# EAGLE library part NSD15-12S12 (library NSD15-12S12)
Isolated DC/DC Converters 15W 12V/1.25A W/EMI FILTER Source: Datasheet <https://www.meanwellusa.com/webapp/product/search.aspx?prod=NSD15-S>
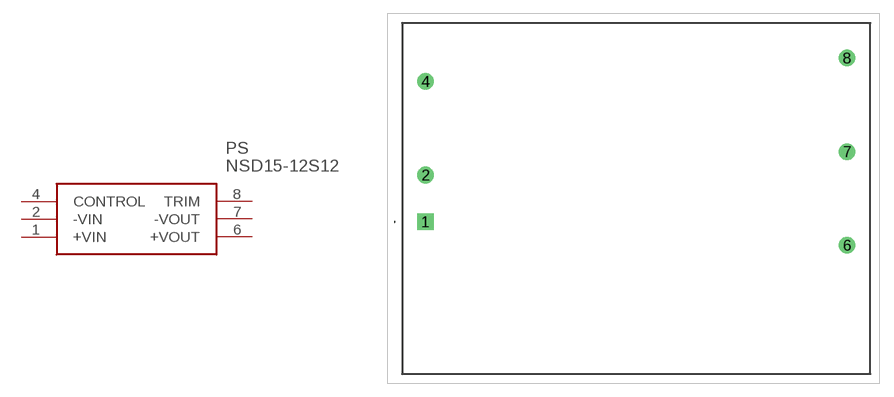
[diagram p0: symbol with the pads of NSD1512S12; footprint NSD1512S12]

Designator prefix PS

## NSD15-12S12 (Description: Isolated DC/DC Converters 15W 12V/1.25A W/EMI FILTER; Height: 9.82mm; Manufacturer_Name: Mean Well; Manufacturer_Part_Number: NSD15-12S12; Mouser_Part_Number: 709-NSD15-12S12; Mouser_Price-Stock: https://www.mouser.co.uk/ProductDetail/MEAN-WELL/NSD15-12S12?qs=l0g2inPJSHOlwI9uYxJDvg%3D%3D)  [NSD1512S12]
1  +VIN
2  -VIN
4  CONTROL
6  +VOUT
7  -VOUT
8  TRIM

## Footprint NSD1512S12 (pad centres in mm)
NSD15-12S12-3
drill 1.2 pad 1.8 square: 1 0,0
drill 1.2 pad 1.8: 2 0,5.08; 4 0,15.24; 6 45.72,-2.54; 7 45.72,7.62; 8 45.72,17.78